# EAGLE library part OSD3358-512M-BSM (library Octavo-Systems OSDZU3)
Octavo Systems LLC OSD335x Family SiP: 21mm x 21mm, 1.27mm pitch 256 pin BGA contains AM3358, 512MB DDR3, TPS65217, TL5209, 4KB EEPROM and passives. Commerical Temperature (case): 0C to 85C.
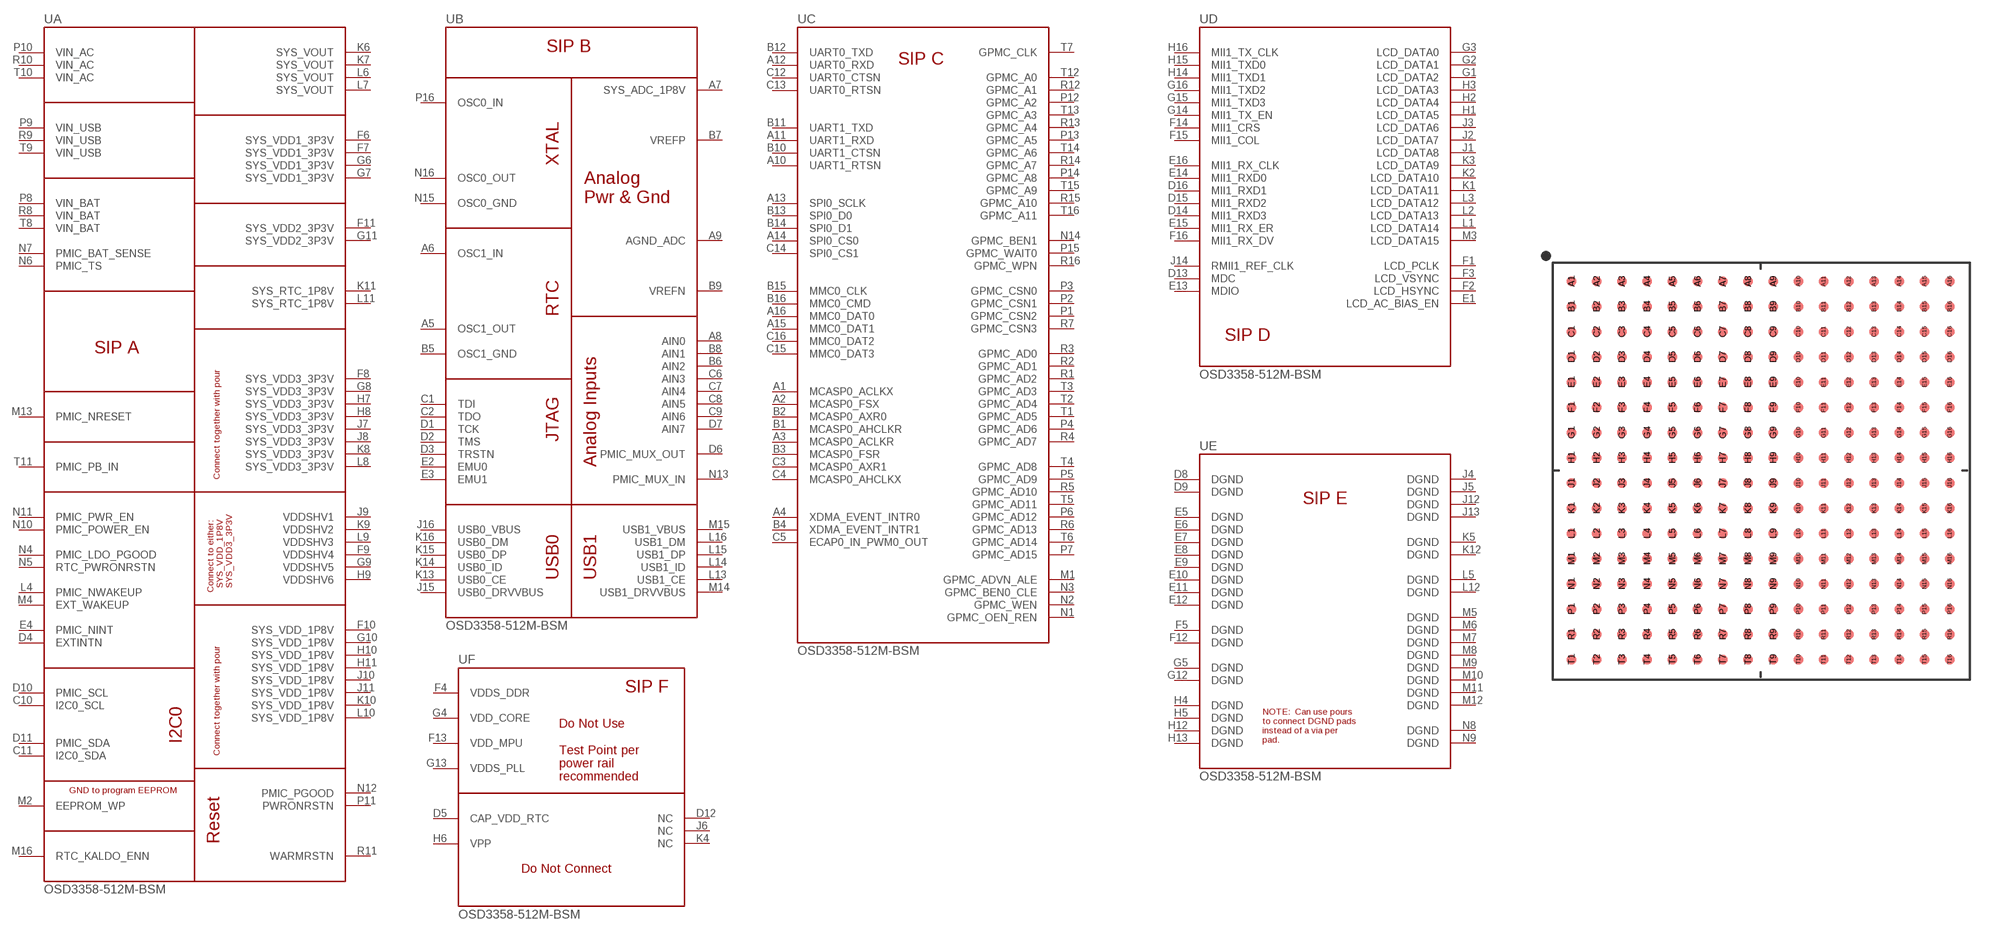
[diagram p1: symbol with the pads of OSD335X-BGA-256; footprint OSD335X-BGA-256]

Designator prefix U; gates A=OSD335X-SM-LOGICAL-A B=OSD335X-SM-LOGICAL-B C=OSD335X-SM-LOGICAL-C D=OSD335X-SM-LOGICAL-D E=OSD335X-SM-LOGICAL-E F=OSD335X-SM-LOGICAL-F

## OSD3358-512M-BSM  [OSD335X-BGA-256]
A1  C:MCASP0_ACLKX
A2  C:MCASP0_FSX
A3  C:MCASP0_ACLKR
A4  C:XDMA_EVENT_INTR0
A5  B:OSC1_OUT
A6  B:OSC1_IN
A7  B:SYS_ADC_1P8V
A8  B:AIN0
A9  B:AGND_ADC
A10  C:UART1_RTSN
A11  C:UART1_RXD
A12  C:UART0_RXD
A13  C:SPI0_SCLK
A14  C:SPI0_CS0
A15  C:MMC0_DAT1
A16  C:MMC0_DAT0
B1  C:MCASP0_AHCLKR
B2  C:MCASP0_AXR0
B3  C:MCASP0_FSR
B4  C:XDMA_EVENT_INTR1
B5  B:OSC1_GND
B6  B:AIN2
B7  B:VREFP
B8  B:AIN1
B9  B:VREFN
B10  C:UART1_CTSN
B11  C:UART1_TXD
B12  C:UART0_TXD
B13  C:SPI0_D0
B14  C:SPI0_D1
B15  C:MMC0_CLK
B16  C:MMC0_CMD
C1  B:TDI
C2  B:TDO
C3  C:MCASP0_AXR1
C4  C:MCASP0_AHCLKX
C5  C:ECAP0_IN_PWM0_OUT
C6  B:AIN3
C7  B:AIN4
C8  B:AIN5
C9  B:AIN6
C10  A:I2C0_SCL
C11  A:I2C0_SDA
C12  C:UART0_CTSN
C13  C:UART0_RTSN
C14  C:SPI0_CS1
C15  C:MMC0_DAT3
C16  C:MMC0_DAT2
D1  B:TCK
D2  B:TMS
D3  B:TRSTN
D4  A:EXTINTN
D5  F:CAP_VDD_RTC
D6  B:PMIC_MUX_OUT
D7  B:AIN7
D8  E:DGND
D9  E:DGND
D10  A:PMIC_SCL
D11  A:PMIC_SDA
D12  F:NC
D13  D:MDC
D14  D:MII1_RXD3
D15  D:MII1_RXD2
D16  D:MII1_RXD1
E1  D:LCD_AC_BIAS_EN
E2  B:EMU0
E3  B:EMU1
E4  A:PMIC_NINT  out
E5  E:DGND
E6  E:DGND
E7  E:DGND
E8  E:DGND
E9  E:DGND
E10  E:DGND
E11  E:DGND
E12  E:DGND
E13  D:MDIO
E14  D:MII1_RXD0
E15  D:MII1_RX_ER
E16  D:MII1_RX_CLK
F1  D:LCD_PCLK
F2  D:LCD_HSYNC
F3  D:LCD_VSYNC
F4  F:VDDS_DDR
F5  E:DGND
F6  A:SYS_VDD1_3P3V  pwr
F7  A:SYS_VDD1_3P3V  pwr
F8  A:SYS_VDD3_3P3V  pwr
F9  A:VDDSHV4  pwr
F10  A:SYS_VDD_1P8V  pwr
F11  A:SYS_VDD2_3P3V  pwr
F12  E:DGND
F13  F:VDD_MPU
F14  D:MII1_CRS
F15  D:MII1_COL
F16  D:MII1_RX_DV
G1  D:LCD_DATA2
G2  D:LCD_DATA1
G3  D:LCD_DATA0
G4  F:VDD_CORE
G5  E:DGND
G6  A:SYS_VDD1_3P3V  pwr
G7  A:SYS_VDD1_3P3V  pwr
G8  A:SYS_VDD3_3P3V  pwr
G9  A:VDDSHV5  pwr
G10  A:SYS_VDD_1P8V  pwr
G11  A:SYS_VDD2_3P3V  pwr
G12  E:DGND
G13  F:VDDS_PLL
G14  D:MII1_TX_EN
G15  D:MII1_TXD3
G16  D:MII1_TXD2
H1  D:LCD_DATA5
H2  D:LCD_DATA4
H3  D:LCD_DATA3
H4  E:DGND
H5  E:DGND
H6  F:VPP
H7  A:SYS_VDD3_3P3V  pwr
H8  A:SYS_VDD3_3P3V  pwr
H9  A:VDDSHV6  pwr
H10  A:SYS_VDD_1P8V  pwr
H11  A:SYS_VDD_1P8V  pwr
H12  E:DGND
H13  E:DGND
H14  D:MII1_TXD1
H15  D:MII1_TXD0
H16  D:MII1_TX_CLK
J1  D:LCD_DATA8
J2  D:LCD_DATA7
J3  D:LCD_DATA6
J4  E:DGND
J5  E:DGND
J6  F:NC
J7  A:SYS_VDD3_3P3V  pwr
J8  A:SYS_VDD3_3P3V  pwr
J9  A:VDDSHV1  pwr
J10  A:SYS_VDD_1P8V  pwr
J11  A:SYS_VDD_1P8V  pwr
J12  E:DGND
J13  E:DGND
J14  D:RMII1_REF_CLK
J15  B:USB0_DRVVBUS
J16  B:USB0_VBUS
K1  D:LCD_DATA11
K2  D:LCD_DATA10
K3  D:LCD_DATA9
K4  F:NC
K5  E:DGND
K6  A:SYS_VOUT  pwr
K7  A:SYS_VOUT  pwr
K8  A:SYS_VDD3_3P3V  pwr
K9  A:VDDSHV2  pwr
K10  A:SYS_VDD_1P8V  pwr
K11  A:SYS_RTC_1P8V  pwr
K12  E:DGND
K13  B:USB0_CE
K14  B:USB0_ID
K15  B:USB0_DP
K16  B:USB0_DM
L1  D:LCD_DATA14
L2  D:LCD_DATA13
L3  D:LCD_DATA12
L4  A:PMIC_NWAKEUP  out
L5  E:DGND
L6  A:SYS_VOUT  pwr
L7  A:SYS_VOUT  pwr
L8  A:SYS_VDD3_3P3V  pwr
L9  A:VDDSHV3  pwr
L10  A:SYS_VDD_1P8V  pwr
L11  A:SYS_RTC_1P8V  pwr
L12  E:DGND
L13  B:USB1_CE
L14  B:USB1_ID
L15  B:USB1_DP
L16  B:USB1_DM
M1  C:GPMC_ADVN_ALE
M2  A:EEPROM_WP
M3  D:LCD_DATA15
M4  A:EXT_WAKEUP
M5  E:DGND
M6  E:DGND
M7  E:DGND
M8  E:DGND
M9  E:DGND
M10  E:DGND
M11  E:DGND
M12  E:DGND
M13  A:PMIC_NRESET
M14  B:USB1_DRVVBUS
M15  B:USB1_VBUS
M16  A:RTC_KALDO_ENN
N1  C:GPMC_OEN_REN
N2  C:GPMC_WEN
N3  C:GPMC_BEN0_CLE
N4  A:PMIC_LDO_PGOOD  out
N5  A:RTC_PWRONRSTN
N6  A:PMIC_TS
N7  A:PMIC_BAT_SENSE
N8  E:DGND
N9  E:DGND
N10  A:PMIC_POWER_EN  out
N11  A:PMIC_PWR_EN  in
N12  A:PMIC_PGOOD  out
N13  B:PMIC_MUX_IN
N14  C:GPMC_BEN1
N15  B:OSC0_GND
N16  B:OSC0_OUT
P1  C:GPMC_CSN2
P2  C:GPMC_CSN1
P3  C:GPMC_CSN0
P4  C:GPMC_AD6
P5  C:GPMC_AD9
P6  C:GPMC_AD12
P7  C:GPMC_AD15
P8  A:VIN_BAT  pwr
P9  A:VIN_USB  pwr
P10  A:VIN_AC  pwr
P11  A:PWRONRSTN
P12  C:GPMC_A2
P13  C:GPMC_A5
P14  C:GPMC_A8
P15  C:GPMC_WAIT0
P16  B:OSC0_IN
R1  C:GPMC_AD2
R2  C:GPMC_AD1
R3  C:GPMC_AD0
R4  C:GPMC_AD7
R5  C:GPMC_AD10
R6  C:GPMC_AD13
R7  C:GPMC_CSN3
R8  A:VIN_BAT  pwr
R9  A:VIN_USB  pwr
R10  A:VIN_AC  pwr
R11  A:WARMRSTN
R12  C:GPMC_A1
R13  C:GPMC_A4
R14  C:GPMC_A7
R15  C:GPMC_A10
R16  C:GPMC_WPN
T1  C:GPMC_AD5
T2  C:GPMC_AD4
T3  C:GPMC_AD3
T4  C:GPMC_AD8
T5  C:GPMC_AD11
T6  C:GPMC_AD14
T7  C:GPMC_CLK
T8  A:VIN_BAT  pwr
T9  A:VIN_USB  pwr
T10  A:VIN_AC  pwr
T11  A:PMIC_PB_IN
T12  C:GPMC_A0
T13  C:GPMC_A3
T14  C:GPMC_A6
T15  C:GPMC_A9
T16  C:GPMC_A11

## Footprint OSD335X-BGA-256 (pad centres in mm)
smd 0.5 x 0.5: A1 -9.525,9.525; A2 -8.255,9.525; A3 -6.985,9.525; A4 -5.715,9.525; A5 -4.445,9.525; A6 -3.175,9.525; A7 -1.905,9.525; A8 -0.635,9.525; A9 0.635,9.525; A10 1.905,9.525; A11 3.175,9.525; A12 4.445,9.525; A13 5.715,9.525; A14 6.985,9.525; A15 8.255,9.525; A16 9.525,9.525; B1 -9.525,8.255; B2 -8.255,8.255; B3 -6.985,8.255; B4 -5.715,8.255; B5 -4.445,8.255; B6 -3.175,8.255; B7 -1.905,8.255; B8 -0.635,8.255; B9 0.635,8.255; B10 1.905,8.255; B11 3.175,8.255; B12 4.445,8.255; B13 5.715,8.255; B14 6.985,8.255; B15 8.255,8.255; B16 9.525,8.255; C1 -9.525,6.985; C2 -8.255,6.985; C3 -6.985,6.985; C4 -5.715,6.985; C5 -4.445,6.985; C6 -3.175,6.985; C7 -1.905,6.985; C8 -0.635,6.985; C9 0.635,6.985; C10 1.905,6.985; C11 3.175,6.985; C12 4.445,6.985; C13 5.715,6.985; C14 6.985,6.985; C15 8.255,6.985; C16 9.525,6.985; D1 -9.525,5.715; D2 -8.255,5.715; D3 -6.985,5.715; D4 -5.715,5.715; D5 -4.445,5.715; D6 -3.175,5.715; D7 -1.905,5.715; D8 -0.635,5.715; D9 0.635,5.715; D10 1.905,5.715; D11 3.175,5.715; D12 4.445,5.715; D13 5.715,5.715; D14 6.985,5.715; D15 8.255,5.715; D16 9.525,5.715; E1 -9.525,4.445; E2 -8.255,4.445; E3 -6.985,4.445; E4 -5.715,4.445; E5 -4.445,4.445; E6 -3.175,4.445; E7 -1.905,4.445; E8 -0.635,4.445; E9 0.635,4.445; E10 1.905,4.445; E11 3.175,4.445; E12 4.445,4.445; E13 5.715,4.445; E14 6.985,4.445; E15 8.255,4.445; E16 9.525,4.445; F1 -9.525,3.175; F2 -8.255,3.175; F3 -6.985,3.175; F4 -5.715,3.175; F5 -4.445,3.175; F6 -3.175,3.175; F7 -1.905,3.175; F8 -0.635,3.175; F9 0.635,3.175; F10 1.905,3.175; F11 3.175,3.175; F12 4.445,3.175; F13 5.715,3.175; F14 6.985,3.175; F15 8.255,3.175; F16 9.525,3.175; G1 -9.525,1.905; G2 -8.255,1.905; G3 -6.985,1.905; G4 -5.715,1.905; G5 -4.445,1.905; G6 -3.175,1.905; G7 -1.905,1.905; G8 -0.635,1.905; G9 0.635,1.905; G10 1.905,1.905; G11 3.175,1.905; G12 4.445,1.905; G13 5.715,1.905; G14 6.985,1.905; G15 8.255,1.905; G16 9.525,1.905; H1 -9.525,0.635; H2 -8.255,0.635; H3 -6.985,0.635; H4 -5.715,0.635; H5 -4.445,0.635; H6 -3.175,0.635; H7 -1.905,0.635; H8 -0.635,0.635; H9 0.635,0.635; H10 1.905,0.635; H11 3.175,0.635; H12 4.445,0.635; H13 5.715,0.635; H14 6.985,0.635; H15 8.255,0.635; H16 9.525,0.635; J1 -9.525,-0.635; J2 -8.255,-0.635; J3 -6.985,-0.635; J4 -5.715,-0.635; J5 -4.445,-0.635; J6 -3.175,-0.635; J7 -1.905,-0.635; J8 -0.635,-0.635; J9 0.635,-0.635; J10 1.905,-0.635; J11 3.175,-0.635; J12 4.445,-0.635; J13 5.715,-0.635; J14 6.985,-0.635; J15 8.255,-0.635; J16 9.525,-0.635; K1 -9.525,-1.905; K2 -8.255,-1.905; K3 -6.985,-1.905; K4 -5.715,-1.905; K5 -4.445,-1.905; K6 -3.175,-1.905; K7 -1.905,-1.905; K8 -0.635,-1.905; K9 0.635,-1.905; K10 1.905,-1.905; K11 3.175,-1.905; K12 4.445,-1.905; K13 5.715,-1.905; K14 6.985,-1.905; K15 8.255,-1.905; K16 9.525,-1.905; L1 -9.525,-3.175; L2 -8.255,-3.175; L3 -6.985,-3.175; L4 -5.715,-3.175; L5 -4.445,-3.175; L6 -3.175,-3.175; L7 -1.905,-3.175; L8 -0.635,-3.175; L9 0.635,-3.175; L10 1.905,-3.175; L11 3.175,-3.175; L12 4.445,-3.175; L13 5.715,-3.175; L14 6.985,-3.175; L15 8.255,-3.175; L16 9.525,-3.175; M1 -9.525,-4.445; M2 -8.255,-4.445; M3 -6.985,-4.445; M4 -5.715,-4.445; M5 -4.445,-4.445; M6 -3.175,-4.445; M7 -1.905,-4.445; M8 -0.635,-4.445; M9 0.635,-4.445; M10 1.905,-4.445; M11 3.175,-4.445; M12 4.445,-4.445; M13 5.715,-4.445; M14 6.985,-4.445; M15 8.255,-4.445; M16 9.525,-4.445; N1 -9.525,-5.715; N2 -8.255,-5.715; N3 -6.985,-5.715; N4 -5.715,-5.715; N5 -4.445,-5.715; N6 -3.175,-5.715; N7 -1.905,-5.715; N8 -0.635,-5.715; N9 0.635,-5.715; N10 1.905,-5.715; N11 3.175,-5.715; N12 4.445,-5.715; N13 5.715,-5.715; N14 6.985,-5.715; N15 8.255,-5.715; N16 9.525,-5.715; P1 -9.525,-6.985; P2 -8.255,-6.985; P3 -6.985,-6.985; P4 -5.715,-6.985; P5 -4.445,-6.985; P6 -3.175,-6.985; P7 -1.905,-6.985; P8 -0.635,-6.985; P9 0.635,-6.985; P10 1.905,-6.985; P11 3.175,-6.985; P12 4.445,-6.985; P13 5.715,-6.985; P14 6.985,-6.985; P15 8.255,-6.985; P16 9.525,-6.985; R1 -9.525,-8.255; R2 -8.255,-8.255; R3 -6.985,-8.255; R4 -5.715,-8.255; R5 -4.445,-8.255; R6 -3.175,-8.255; R7 -1.905,-8.255; R8 -0.635,-8.255; R9 0.635,-8.255; R10 1.905,-8.255; R11 3.175,-8.255; R12 4.445,-8.255; R13 5.715,-8.255; R14 6.985,-8.255; R15 8.255,-8.255; R16 9.525,-8.255; T1 -9.525,-9.525; T2 -8.255,-9.525; T3 -6.985,-9.525; T4 -5.715,-9.525; T5 -4.445,-9.525; T6 -3.175,-9.525; T7 -1.905,-9.525; T8 -0.635,-9.525; T9 0.635,-9.525; T10 1.905,-9.525; T11 3.175,-9.525; T12 4.445,-9.525; T13 5.715,-9.525; T14 6.985,-9.525; T15 8.255,-9.525; T16 9.525,-9.525